# Altium schematic symbol library aiskylab-08Optoelectronics.SchLib: 32 symbols
Pins are listed as number, name and electrical type; pins without a type are passive.

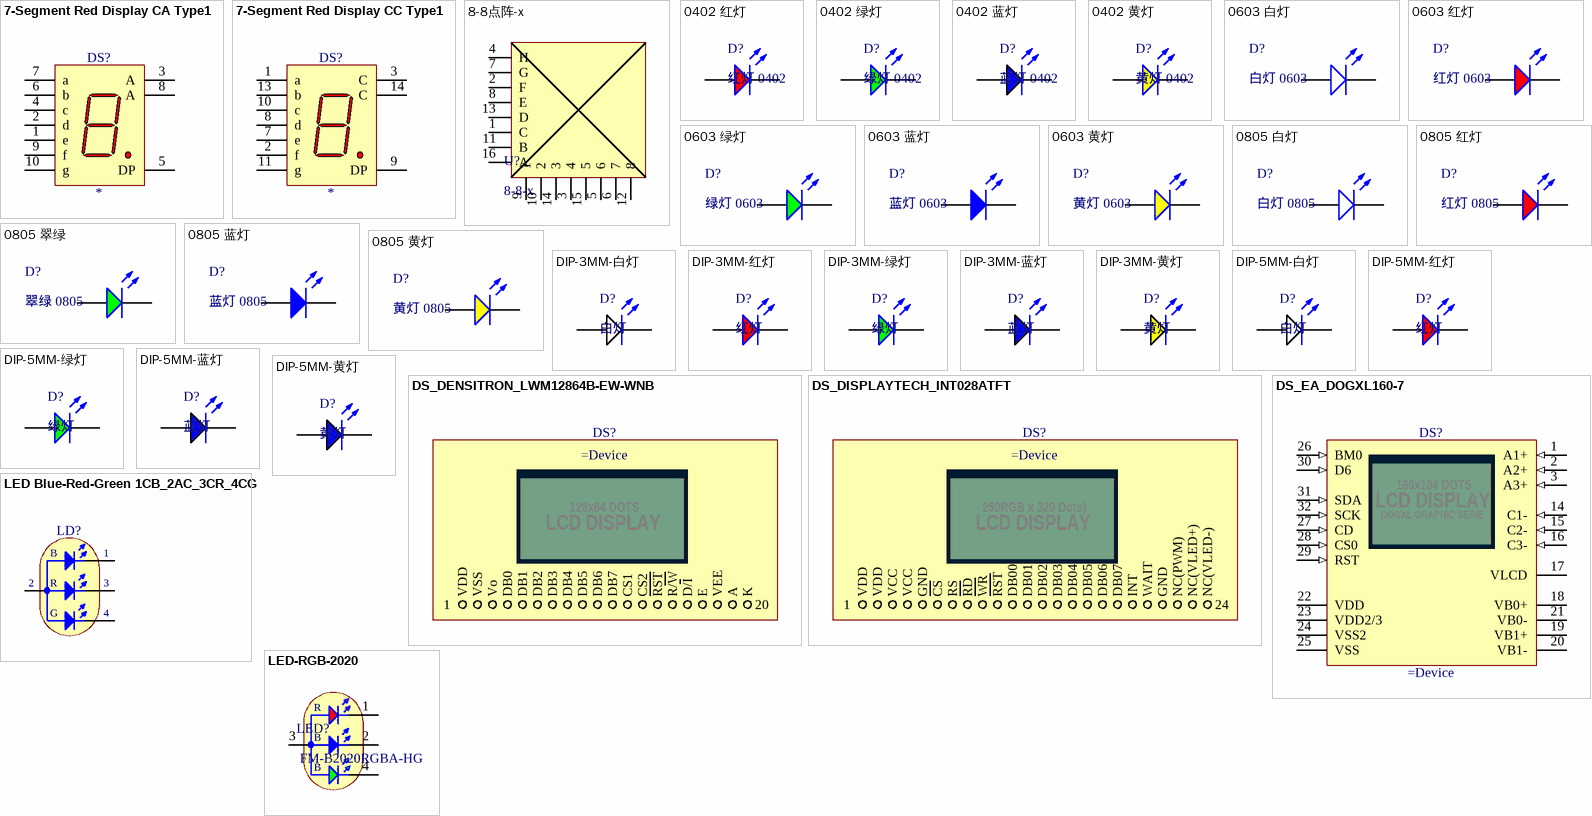
[diagram p0: symbols 7-Segment Red Display CA Type1 to LED-RGB-2020]

## 7-Segment Red Display CA Type1
designator DS?
共阳单数码管; Device: *
footprint DS_AVAGO_HDSP-3353 (10.9mm Single Digit, Common Cathode, HER Seven Segment Display, Body 12.7x19.05mm)
footprint DS_KINGBRIGHT_SA52-11SRWA (13.2mm Single Digit Numeric Red Display, Body 12.65x17.75mm)
pins: 1 e "Cathode", 2 d "Cathode", 3 A "Anode", 4 c "Cathode", 5 DP "Cathode", 6 b "Cathode", 7 a "Cathode", 8 A "Anode", 9 f "Cathode", 10 g "Cathode"

## 7-Segment Red Display CC Type1
designator DS?
共阴单数码管; Device: *
footprint DS_AVAGO_HDSP-3353 (10.9mm Single Digit, Common Cathode, HER Seven Segment Display, Body 12.7x19.05mm)
pins: 1 a "Cathode", 2 f "Cathode", 3 C "Anode", 7 e "Cathode", 8 d "Anode", 9 DP "Cathode", 10 c "Cathode", 11 g "Anode", 13 b "Anode", 14 C "Anode"

## 8-8点阵-x
designator U?, comment 8-8-x
点阵二极管; 8-8: RAD
footprint 8-8点阵 -x
pins: 1 C, 2 F, 3 4, 4 H, 5 6, 6 7, 7 G, 8 E, 9 1, 10 2, 11 B, 12 8, 13 D, 14 3, 15 5, 16 A

## 0402 红灯
designator D?, comment 红灯 0402
发光二极管
footprint 0402_LED_Red (CHIPLED RED 0402 / LR QH9F OSRAM)
pins: A, K

## 0402 绿灯
designator D?, comment 绿灯 0402
发光二极管
footprint 0402_LED_Green (CHIPLED TREU GREEN 0402 / LT QH9G OSRAM)
pins: A, K

## 0402 蓝灯
designator D?, comment 蓝灯 0402
发光二极管
footprint 0402-LEDB
pins: A, K

## 0402 黄灯
designator D?, comment 黄灯 0402
发光二极管
footprint 0402_led_Yellow (CHIPLED YELLOW 0402 / LY QH9G OSRAM)
pins: A, K

## 0603 白灯
designator D?, comment 白灯 0603
发光二极管; ComponentLink1Description: 供应商链接; ComponentLink1URL: http://www.szlcsc.com/product/details_2663.html; Package: 0603; Supplier: LC; SuppliersPartNumber: C2290
footprint 0603_LED_W
pins: A, K

## 0603 红灯
designator D?, comment 红灯 0603
发光二极管; ComponentLink1Description: 供应商链接; ComponentLink1URL: http://www.szlcsc.com/product/details_2659.html; Package: 0603; Supplier: LC; SuppliersPartNumber: C2286
footprint 0603_LED_R
footprint 0603/1608 LEDR
pins: A, K

## 0603 绿灯
designator D?, comment 绿灯 0603
发光二极管; ComponentLink1Description: 供应商链接; ComponentLink1URL: http://www.szlcsc.com/product/details_73152.html; Package: 0603; Supplier: LC; SuppliersPartNumber: C72043
footprint 0603/1608 LEDG (Kingbright,1608,LED,400 mcd 120*)
footprint 0603_LED_G
pins: A, K

## 0603 蓝灯
designator D?, comment 蓝灯 0603
发光二极管; ComponentLink1Description: 供应商链接; ComponentLink1URL: http://www.szlcsc.com/product/details_73150.html; Package: 0603; Supplier: LC; SuppliersPartNumber: C72041
footprint 0603/1608 LEDB
footprint 0603_LED_B
pins: A, K

## 0603 黄灯
designator D?, comment 黄灯 0603
发光二极管; ComponentLink1Description: 供应商链接; ComponentLink1URL: http://www.szlcsc.com/product/details_73147.html; Package: 0603; Supplier: LC; SuppliersPartNumber: C72038
footprint 0603/1608 LEDY
footprint 0603_LED_Y
pins: A, K

## 0805 白灯
designator D?, comment 白灯 0805
发光二极管; ComponentLink1Description: 供应商链接; ComponentLink1URL: http://www.szlcsc.com/product/details_35468.html; Package: 0805; Supplier: LC; SuppliersPartNumber: C34499
footprint 0805_LED_W
pins: A, K

## 0805 红灯
designator D?, comment 红灯 0805
发光二极管; ComponentLink1Description: 供应商链接; ComponentLink1URL: http://www.szlcsc.com/product/details_2668.html; Package: 0805; Supplier: LC; SuppliersPartNumber: C2295
footprint 0805_LED_R
pins: A, K

## 0805 翠绿
designator D?, comment 翠绿 0805
发光二极管; ComponentLink1Description: 供应商链接; ComponentLink1URL: http://www.szlcsc.com/product/details_2670.html; Package: 0805; Supplier: LC; SuppliersPartNumber: C2297
footprint 0805/2012 LEDG
footprint 0805_LED_G
pins: A, K

## 0805 蓝灯
designator D?, comment 蓝灯 0805
发光二极管; ComponentLink1Description: 供应商链接; ComponentLink1URL: http://www.szlcsc.com/product/details_2666.html; Package: 0805; Supplier: LC; SuppliersPartNumber: C2293
footprint 0805/2012 LEDB
footprint 0805_LED_B
pins: A, K

## 0805 黄灯
designator D?, comment 黄灯 0805
发光二极管; ComponentLink1Description: 供应商链接; ComponentLink1URL: http://www.szlcsc.com/product/details_2669.html; Package: 0805; Supplier: LC; SuppliersPartNumber: C2296
footprint 0805/2012 LEDY
footprint 0805_LED_Y
pins: A, K

## DIP-3MM-白灯
designator D?, comment 白灯
发光二极管
footprint LED_3MM_W_1K-2A
pins: A, K

## DIP-3MM-红灯
designator D?, comment 红灯
发光二极管
footprint LED_3MM_R_1K-2A (LED, Red, Body Dia. 3.43 mm, Pin spacing 2.54mm)
pins: A, K

## DIP-3MM-绿灯
designator D?, comment 绿灯
发光二极管
footprint LED_3MM_G_1K-2A (LED, Green, Body Dia. 3.43 mm, Pin spacing 2.54mm)
pins: A, K

## DIP-3MM-蓝灯
designator D?, comment 蓝灯
发光二极管
footprint LED_3MM_B_1K-2A
pins: A, K

## DIP-3MM-黄灯
designator D?, comment 黄灯
发光二极管
footprint LED_3MM_Y_1K-2A (LED, Red, Body Dia. 3.43 mm, Pin spacing 2.54mm)
pins: A, K

## DIP-5MM-白灯
designator D?, comment 白灯
发光二极管
footprint LED_DIP2_5_WHITE
pins: A, K

## DIP-5MM-红灯
designator D?, comment 红灯
发光二极管
footprint LED_DIP2_5_RED
pins: A, K

## DIP-5MM-绿灯
designator D?, comment 绿灯
发光二极管
footprint LED_DIP2_5_GREEN
pins: A, K

## DIP-5MM-蓝灯
designator D?, comment 蓝灯
发光二极管
footprint LED_DIP2_5_BLUE
pins: A, K

## DIP-5MM-黄灯
designator D?, comment 黄灯
发光二极管
footprint LED_DIP2_5_YELLOW
pins: A, K

## DS_DENSITRON_LWM12864B-EW-WNB
designator DS?
LCD Display Module, 128x64 Dots,Transmissive Negative, BL White LED, Wide Temp, Negative Voltage Generator, STN Blue
footprint DS_DENSITRON_LWM12864B-EW-WNB (LCD Display Module, 128x64 Dots,Transmissive Negative, BL White LED, Wide Temp, Negative Voltage Generator, STN Blue)
footprint LCD-12864 (HD35-12864 & 显白)
text: 128x64 DOTS; LCD DISPLAY; VDD; VSS; Vo; DB0; DB1; DB2; DB3; DB4; DB5; DB6; DB7; CS1; CS2; RST; R/W; D/I; E; VEE; A; K; 1; 20

## DS_DISPLAYTECH_INT028ATFT
designator DS?
2.8" Integrated TFT Display Module (250RGB x 320 Dots), Body 71.2 x60mm
text: 250RGB x 320 Dots); LCD DISPLAY; VDD; VCC; GND; CS; RS; RD; WR; RST; DB00; DB01; DB02; DB03; DB04; DB05; DB06; DB07; INT; WAIT; NC(PWM); NC(VLED+); NC(VLED-); 1; 24

## DS_EA_DOGXL160-7
designator DS?
160x104-Pixel  LCD Graphics Display
pins: 1 A1+ (in), 2 A2+ (in), 3 A3+ (in), 14 C1- (in), 15 C2- (in), 16 C3- (in), 17 VLCD (power), 18 VB0+, 19 VB1+, 20 VB1-, 21 VB0-, 22 VDD (power), 23 VDD2/3 (power), 24 VSS2 (power), 25 VSS (power), 26 BM0 (in), 27 CD (in), 28 CS0 (in), 29 RST (in), 30 D6 (in), 31 SDA (in), 32 SCK (in)
text: 160x104 DOTS; LCD DISPLAY; DOGXL GRAPHIC SERIE

## LED Blue-Red-Green 1CB_2AC_3CR_4CG
designator LD?
Tricolor LEDs 1 Cathode Blue, 2 Common Anode, 3 Cathode Red, 4 Cathode Green
pins: 1 CB, 2 AC, 3 CR, 4 CG
text: B; R; G

## LED-RGB-2020
designator LED?, comment FM-B2020RGBA-HG
发光二极管; Brand: 国兴光电; ComponentLink1Description: Datasheet; ComponentLink1URL: https://atta.szlcsc.com/upload/public/pdf/source/20180518/C108793_2518890ED811E900864AC79152D9E220.pdf; Supplier: JLC; SupplierPartNumber: C108793; Manufacture Part Number: FM-B2020RGBA-HG; Pricing: 0.161461
footprint LED_2020_RGB
pins: 1 KR, 2 KG, 3 CA, 4 KB
text: R; B